# EAGLE library part CAOAP (library 0000)
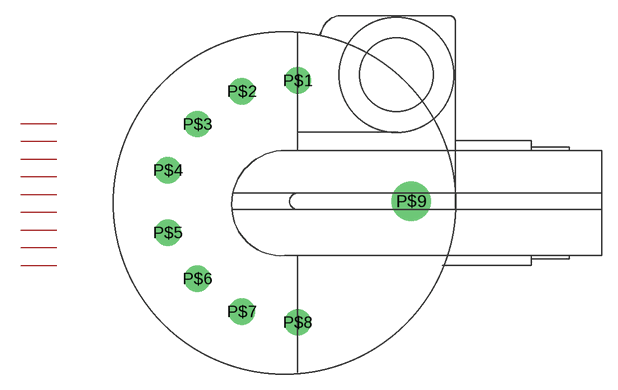
[diagram p0: symbol with the pads of CAOAP; footprint CAOAP]

Designator prefix -; gates 1=CAOAP 2=CAOAP 3=CAOAP 4=CAOAP 5=CAOAP 6=CAOAP 7=CAOAP 8=CAOAP 9=CAOAP

## CAOAPC  [CAOAP]
P$1  1:1  pas
P$2  2:1  pas
P$3  3:1  pas
P$4  4:1  pas
P$5  5:1  pas
P$6  6:1  pas
P$7  7:1  pas
P$8  8:1  pas
P$9  9:1  pas

## Footprint CAOAP (pad centres in mm)
drill 1.1 pad 2.54 round: P$1 -0.159,11.515; P$2 -5.557,10.478; P$3 -9.842,7.303; P$4 -12.7,2.858; P$5 -12.7,-3.175; P$6 -9.842,-7.62; P$7 -5.557,-10.795; P$8 -0.159,-11.832
drill 1.5 pad 3.81 round: P$9 10.795,-0.159